# Altium schematic symbol library CL31B106MOHNNNE.SchLib: 1 symbol
Pins are listed as number, name and electrical type; pins without a type are passive.

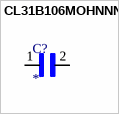
[diagram p0: symbol CL31B106MOHNNNE]

## CL31B106MOHNNNE
designator C?
MP: CL31B106MOHNNNE; Package: None; Price: None; Value: *; Availability: Unavailable
footprint CAPC3216X140N
pins: 1, 2